# Altium footprint library Светодиоды.PcbLib: 31 footprints (part 2 of 2)
Each footprint in its own frame and in the unit in brackets; x right, y up, seen from the top. Pads: shape width x height; smd on the part's side, far side on the other; paste and mask are expansions set on the pad; w line width, h text height; cw(c..) or ccw(c..) is an arc to the next point about the centre after c.
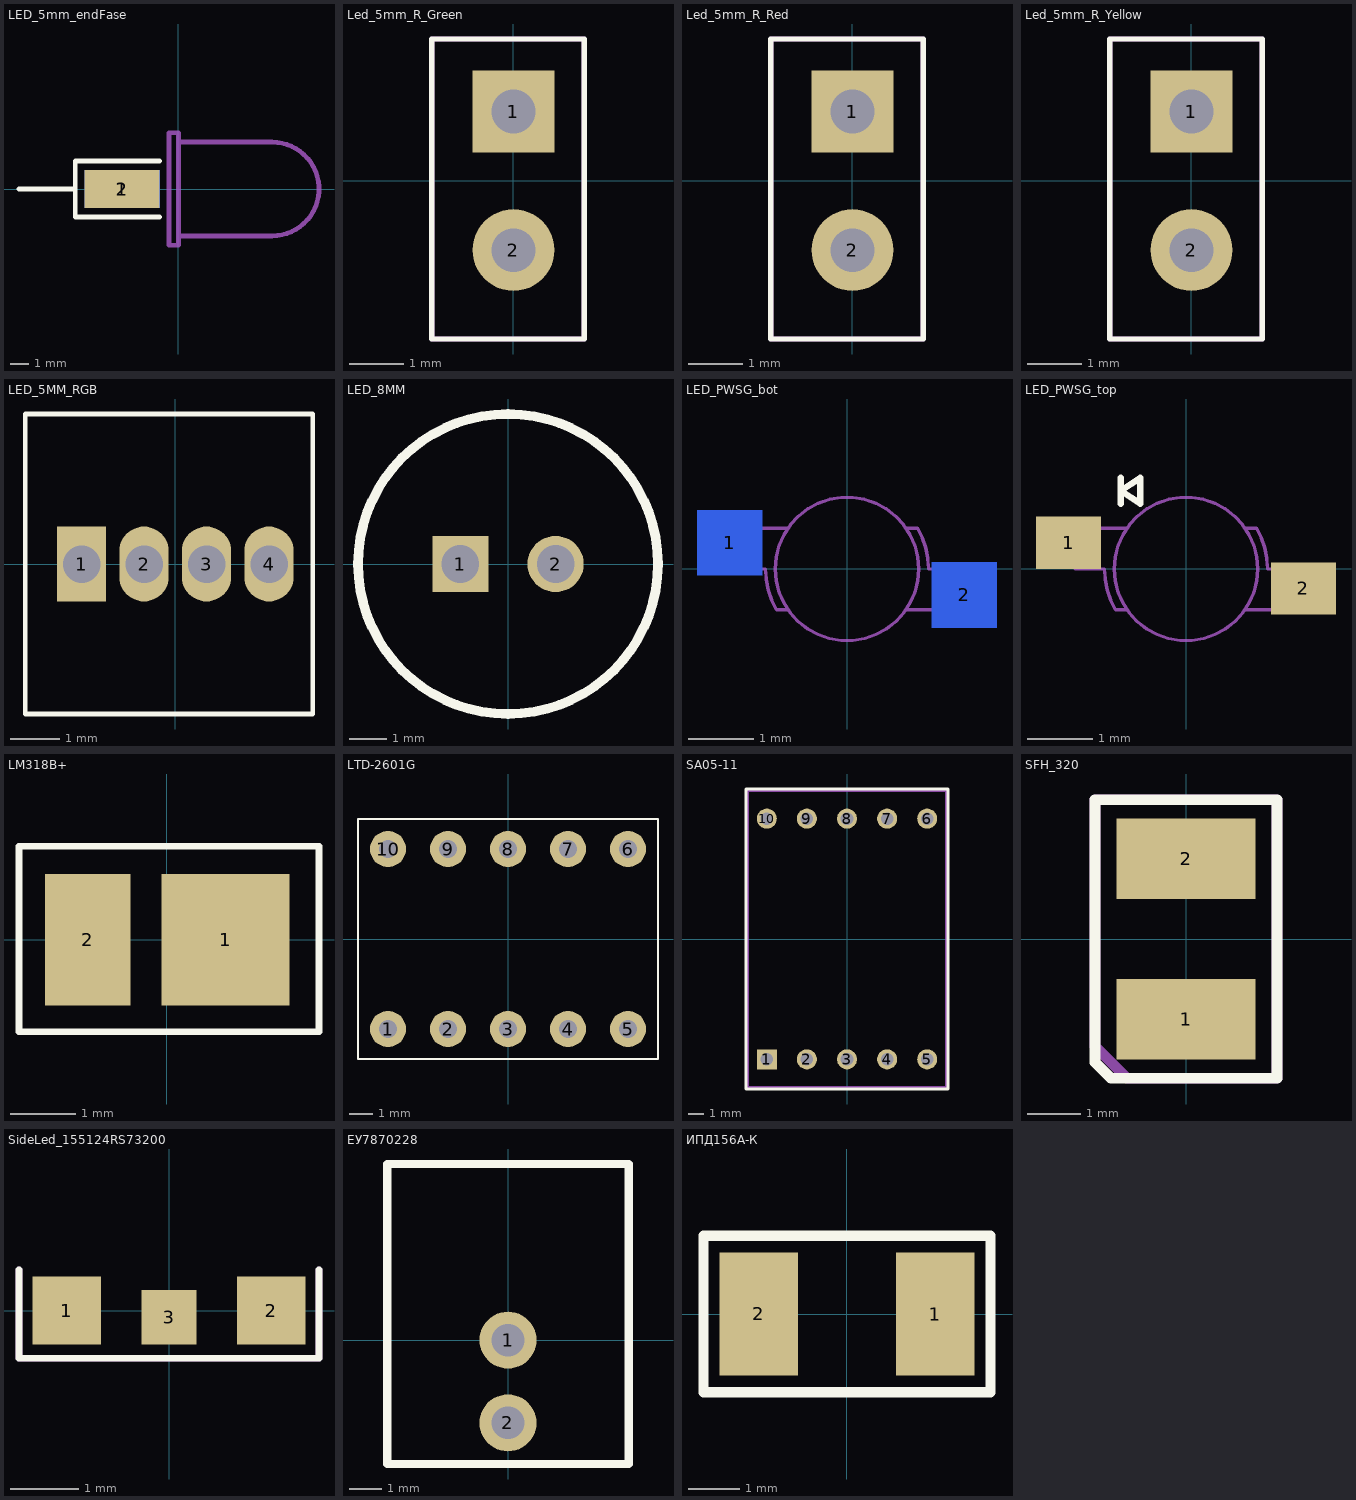
[diagram p1: the footprints below, top view; thin cyan lines are the x and y axes]

## LED_5mm_endFase [mm]
pads (2):
  rect 4x2 smd: 1(-3,0)
  rect 4x2 smd far side: 2(-3,0)
Top Overlay:
  lines w0.254: -8.5,0 -5.5,0 ; -1,-1.5 -5.5,-1.5 -5.5,1.5 -1,1.5
Bottom Overlay:
  lines w0.254: -4,1.5 -5.5,1.5 ; -1,-1.5 -5.5,-1.5 -5.5,1.5 ; -5.5,1.5 -1,1.5 -5.5,1.5
Mechanical 15:
  lines w0.254: 0,-2.5 0,2.5 ; 0,-2.5 5,-2.5 ccw(c5,0) 5,2.5 0,2.5 ; 0,-2.5 0,-3 -0.5,-3 -0.5,3 0,3 0,2.5
3D body "User Library-LED-3.STEP": height 3, standoff -3, extent -3.5,-2.5 8,3

## Led_5mm_R_Green [mm]
pads (2):
  rect 1.5x1.5 hole 0.8: 1(0,1.27)
  round 1.5 hole 0.8: 2(0,-1.27)
Top Overlay:
  lines w0.1: -1.5,-2.9 -1.5,2.6 1.3,2.6 1.3,-2.9 -1.5,-2.9
Top Assy:
  lines w0.1: -1.5,-2.9 -1.5,2.6 1.3,2.6 1.3,-2.9 -1.5,-2.9
  text ".Designator" at 2,-3.8 h1.52
3D body "Led 5mm R Green.stp": height 5.95, standoff -2, extent -11.625,-2.85 0.225,2.6

## Led_5mm_R_Red [mm]
pads (2):
  rect 1.5x1.5 hole 0.8: 1(0,1.27)
  round 1.5 hole 0.8: 2(0,-1.27)
Top Overlay:
  lines w0.1: -1.5,-2.9 -1.5,2.6 1.3,2.6 1.3,-2.9 -1.5,-2.9
Top Assy:
  lines w0.1: -1.5,-2.9 -1.5,2.6 1.3,2.6 1.3,-2.9 -1.5,-2.9
  text ".Designator" at 2,-3.8 h1.52
3D body "Led 5mm R Red.stp": height 5.95, standoff -2, extent -11.625,-2.85 0.225,2.6

## Led_5mm_R_Yellow [mm]
pads (2):
  rect 1.5x1.5 hole 0.8: 1(0,1.27)
  round 1.5 hole 0.8: 2(0,-1.27)
Top Overlay:
  lines w0.1: -1.5,-2.9 1.3,-2.9 1.3,2.6 -1.5,2.6 -1.5,-2.9
Top Assy:
  lines w0.1: -1.5,-2.9 1.3,-2.9 1.3,2.6 -1.5,2.6 -1.5,-2.9
  text ".Designator" at 2,-3.8 h1.52
3D body "Led 5mm R Yellow.stp": height 5.95, standoff -2, extent -11.625,-2.85 0.225,2.6

## LED_5MM_RGB [mil]
pads (4):
  rect 39.37x60 hole 30: 1(-75,0)
  oval 39.37x60 hole 30: 2(-25,0) 3(25,0) 4(75,0)
Top Overlay:
  lines w3.94: -120,-120 -120,120 110,120 110,-120 -120,-120
3D body "LED_5MM_RGB v4.STEP": height 314.67, standoff -263.78, extent -118.11,-118.1 102.36,118.12

## LED_8MM [mm]
pads (2):
  rect 1.5x1.5 hole 1: 1(-1.27,0)
  round 1.5 hole 1: 2(1.27,0)
Top Overlay:
  circle w0.254: c0,0 r4

## LED_PWSG_bot [mm]
pads (2):
  rect 1x1 smd far side: 1(-1.8,0.4) 2(1.8,-0.4)
Bottom Overlay:
  lines w0.1: -1,1 -1,1.4 ; -1,1.2 -0.7,1.4 -0.7,1 -1,1.2
Boot Assy:
  circle w0.05: c0,0 r1.1
  lines w0.05: -1.082,-0.626 cw(c0,0) -1.25,0 -1.7,0 -1.7,0.625 -0.9,0.625 ; -1.08,-0.625 -0.9,-0.625 ; 0.9,-0.625 1.7,-0.625 1.7,0 1.25,0 ccw(c0,0) 1.082,0.626 ; 0.9,0.625 1.08,0.625
3D body "LT PWSG-BACA-36-N626.stp": height 0.13, standoff -0.7, extent -1.7,-0.942 1.7,0.95

## LED_PWSG_top [mm]
pads (2):
  rect 1x0.8 smd: 1(-1.8,0.4) 2(1.8,-0.3)
Top Overlay:
  lines w0.1: -1,1 -1,1.4 ; -1,1.2 -0.7,1.4 -0.7,1 -1,1.2
Top Assy:
  circle w0.05: c0,0 r1.1
  lines w0.05: -1.082,-0.626 cw(c0,0) -1.25,0 -1.7,0 -1.7,0.625 -0.9,0.625 ; -1.08,-0.625 -0.9,-0.625 ; 0.9,-0.625 1.7,-0.625 1.7,0 1.25,0 ccw(c0,0) 1.082,0.626 ; 0.9,0.625 1.08,0.625
3D body "LT PWSG-BACA-36-N626.stp": height 0.72, standoff -0.1, extent -1.7,-0.942 1.7,0.95

## LM318B+ [mm]
pads (2):
  rect 1.95x2 smd: 1(0.9,0)
  rect 1.3x2 smd: 2(-1.2,0)
Top Overlay:
  lines w0.1: -2.25,-1.4 2.325,-1.4 2.325,1.425 -2.25,1.425 -2.25,-1.4

## LTD-2601G [mil]
pads (10):
  round 60 hole 30: 1(-200,-150) 2(-100,-150) 3(0,-150) 4(100,-150) 5(200,-150) 6(200,150) 7(100,150) 8(0,150) 9(-100,150) 10(-200,150)
Top Overlay:
  lines w3.94: -250,-200 -250,200 250,200 250,-200 -250,-200
3D body "2x7Seg-LTD-2601G.STEP": height 240.16, standoff -137.8, extent -295.66,-196.84 295.68,196.86

## SA05-11 [mm]
pads (10):
  rect 1.27x1.27 hole 0.8: 1(-5.08,-7.62)
  round 1.27 hole 0.8: 2(-2.54,-7.62) 3(0,-7.62) 4(2.54,-7.62) 5(5.08,-7.62) 6(5.08,7.62) 7(2.54,7.62) 8(0,7.62) 9(-2.54,7.62) 10(-5.08,7.62)
Top Overlay:
  lines w0.2: -6.4,-9.5 -6.4,9.5 6.4,9.5 6.4,-9.5 -6.4,-9.5
Top Assy:
  lines w0.2: -6.3,-9.4 6.3,-9.4 6.3,9.4 -6.3,9.4 -6.3,-9.4
  text ".Designator" at -4.9,0.6 h1.52
3D body "SA05-11.step": height 0, standoff -12, extent -6.35,-9.5 6.35,9.5

## SFH_320 [mm]
pads (2):
  rect 2.6x1.5 smd: 1(0,-1.5) 2(0,1.5)
Top Overlay:
  lines w0.2: -1.7,-2.3 -1.7,2.6 1.7,2.6 1.7,-2.6 -1.4,-2.6 -1.7,-2.3
Top Assy:
  lines w0.2: -1.7,-2 -1.7,2.6 1.7,2.6 1.7,-2.6 -1.1,-2.6 -1.7,-2
  text ".Designator" at -1.3,-1.3 h1.52
3D body "SFH320.STEP": height 2, standoff -0.1, extent -1.5,-1.88 1.5,1.88

## SideLed_155124RS73200 [mm]
pads (3):
  rect 1x1 smd: 1(-1.5,0) 2(1.5,0)
  rect 0.8x0.8 smd: 3(0,-0.1)
Top Overlay:
  lines w0.1: -2.2,0.6 -2.2,-0.7 2.2,-0.7 2.2,0.6
Top Assy:
  lines w0.1: -2.2,0.6 -2.2,-0.7 2.2,-0.7 2.2,0.6
  text ".Designator" at -3.7,-0.4 h1.52
3D body "STP_WL-SMSW-1204_rev1.stp": height 1, standoff 0, extent -1.6,0 1.6,1.485

## ЕУ7870228 [mm]
pads (2):
  round 1.75 hole 1: 1(0,0) 2(0,-2.54)
Top Overlay:
  lines w0.254: -3.7,-3.8 3.7,-3.8 3.7,5.4 -3.7,5.4 -3.7,-3.8
3D body "ЕУ 7 870 228.STEP": height 7, standoff -3.5, extent -3.5,-2.85 3.5,7.5

## ИПД156А-К [mm]
pads (2):
  rect 1.524x2.4 smd: 1(1.72,0) 2(-1.72,0)
Top Overlay:
  lines w0.2: -2.794,-1.524 2.794,-1.524 2.794,1.524 -2.794,1.524 -2.794,-1.524
3D body "ИПД156А-К.STEP": height 1.9, standoff -0.02, extent -1.72,-1.35 1.72,1.35